# EAGLE library part XR2211 (library bt_communication)
Exar XR2211 FSK Demodulator/Tone Decoder The XR-2211A is a monolithic phase-locked loop (PLL) system especially designed for data communications applications. It is particularly suited for FSK modem applications. It operates over a wide supply voltage range of 4.5 to 20V and a wide frequency range of 0.01Hz to 300kHz. It can accommodate analog signals between 10mV and 3V, and can interface with conventional DTL, TTL, and ECL logic families. Datasheet: xr2211av104.pdf <https://www.maxlinear.com/ds/xr2211av104.pdf>
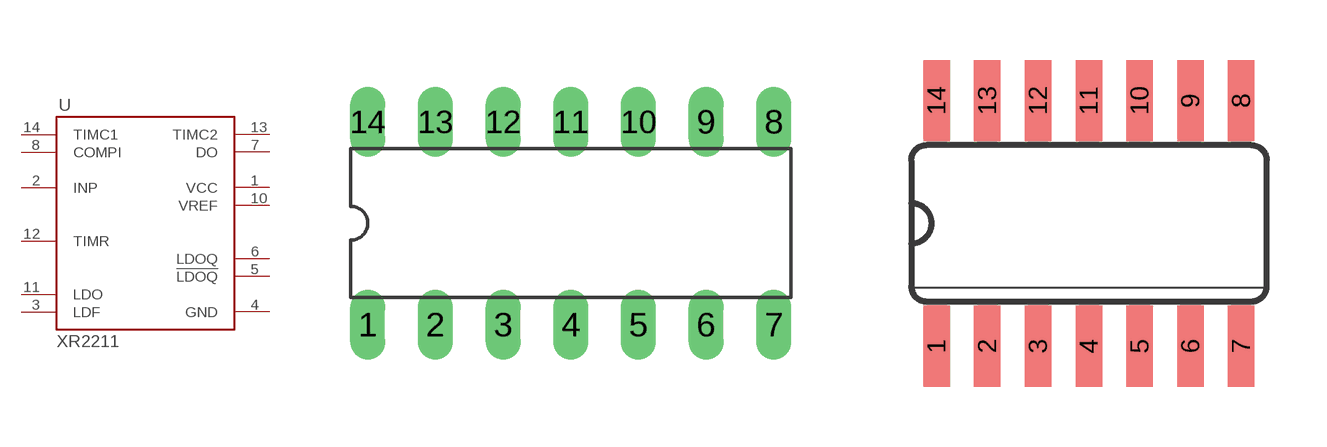
[diagram p1: symbol with the pads of DIL14; footprints DIL14, SOIC14]

Designator prefix U

## XR2211ACP  [DIL14]
1  VCC
2  INP
3  LDF
4  GND
5  !LDOQ
6  LDOQ
7  DO
8  COMPI
10  VREF
11  LDO
12  TIMR
13  TIMC2
14  TIMC1

## XR2211ACD  [SOIC14]
Pads as for DIL14

## Footprint DIL14 (pad centres in mm)
drill 0.8 long: 1 -7.62,-3.81; 2 -5.08,-3.81; 3 -2.54,-3.81; 4 0,-3.81; 5 2.54,-3.81; 6 5.08,-3.81; 7 7.62,-3.81; 8 7.62,3.81; 9 5.08,3.81; 10 2.54,3.81; 11 0,3.81; 12 -2.54,3.81; 13 -5.08,3.81; 14 -7.62,3.81

## Footprint SOIC14 (pad centres in mm)
smd 0.66 x 2.032: 1 -3.81,-3.073; 2 -2.54,-3.073; 3 -1.27,-3.073; 4 0,-3.073; 5 1.27,-3.073; 6 2.54,-3.073; 7 3.81,-3.073; 8 3.81,3.073; 9 2.54,3.073; 10 1.27,3.073; 11 0,3.073; 12 -1.27,3.073; 13 -2.54,3.073; 14 -3.81,3.073